# Altium footprint library All.PcbLib: 121 footprints (part 3 of 8)
Each footprint in its own frame and in the unit in brackets; x right, y up, seen from the top. Pads: shape width x height; smd on the part's side, far side on the other; paste and mask are expansions set on the pad; w line width, h text height; cw(c..) or ccw(c..) is an arc to the next point about the centre after c.
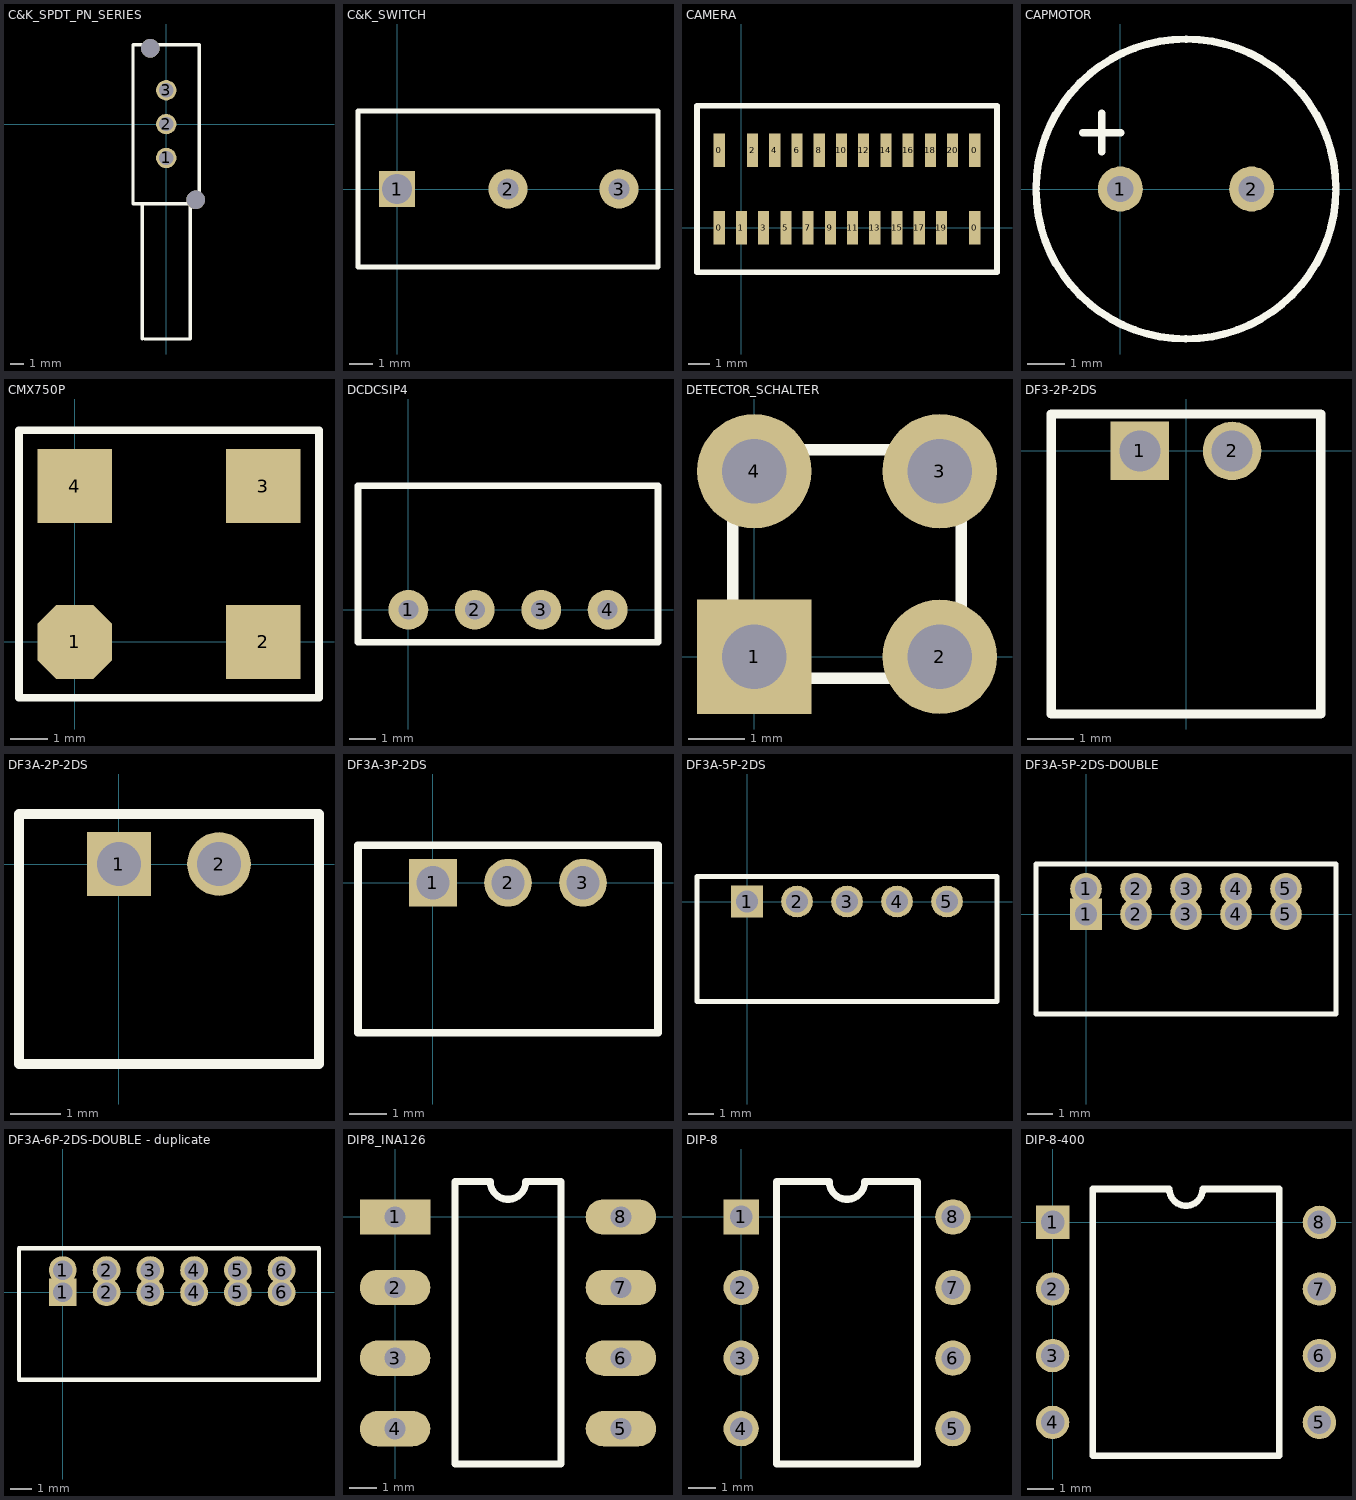
[diagram p2: the footprints below, top view; thin cyan lines are the x and y axes]

## C&K_SPDT_PN_SERIES [mil]
pads (5):
  round 60 hole 42: 1(0,-100) 2(0,0) 3(0,100)
  round 55 hole 55: ""(-47,224) ""(87,-224)
Top Overlay:
  lines w10: -70.87,-635 -70.87,-235 ; -62.99,-635 70.87,-635 70.87,-235 ; -98,-235 -98,235 98,235 98,-235 -98,-235

## C&K_SWITCH [mil] "Slide switch"
pads (3):
  rect 60x60 hole 50: 1(0,0)
  round 65 hole 35: 2(185,0) 3(370,0)
Top Overlay:
  lines w8: -65,-130 -65,130 435,130 435,-130 -65,-130

## CAMERA [mil]
pads (24):
  rect 20x60 smd: 0(-40,0) 0(-40,140) 0(420,0) 0(420,140) 1(0,0) 2(20,140) 3(40,0) 4(60,140) 5(80,0) 6(100,140) 7(120,0) 8(140,140) 9(160,0) 10(180,140) 11(200,0) 12(220,140) 13(240,0) 14(260,140) 15(280,0) 16(300,140) 17(320,0) 18(340,140) 19(360,0) 20(380,140)
Top Overlay:
  lines w10: -80,-80 460,-80 460,220 -80,220 -80,-80

## CAPMOTOR [mm]
pads (2):
  round 1.2 hole 0.7: 1(0,0) 2(3.5,0)
Top Overlay:
  circle w0.2: c1.75,0 r4
  lines w0.2: -1,1.5 0.016,1.5 ; -0.5,1 -0.5,2.016

## CMX750P [mm]
pads (4):
  oct 2x2 smd: 1(0,0)
  rect 2x2 smd: 2(5.08,0) 3(5.08,4.2) 4(0,4.2)
Top Overlay:
  lines w0.203: -1.5,-1.5 6.58,-1.5 6.58,5.7 -1.5,5.7 -1.5,-1.5

## DCDCSIP4 [mil]
pads (4):
  round 60 hole 30: 1(0,0) 2(100,0) 3(200,0) 4(300,0)
Top Overlay:
  lines w10: -75.98,-49.21 375.98,-49.21 375.98,187.01 -75.98,187.01 -75.98,-49.21

## DETECTOR_SCHALTER [mil] "Detector Schalter Conrad JDS-1105A"
pads (4):
  rect 80x80 hole 45: 1(0,0)
  round 80 hole 45: 2(129.92,0) 3(129.92,129.92) 4(0,129.92)
Top Overlay:
  lines w8: -15,30 -15,100 ; 30,-15 100,-15 ; 30,145 100,145 ; 145,30 145,100

## DF3-2P-2DS [mil]
pads (2):
  rect 50x50 hole 35: 1(-39.37,0)
  round 50 hole 35: 2(39.37,0)
Top Overlay:
  lines w8: -115,-224.41 -115,31.5 115,31.5 115,-224.41 -115,-224.41

## DF3A-2P-2DS [mil]
pads (2):
  rect 50x50 hole 35: 1(0,0)
  round 50 hole 35: 2(78.74,0)
Top Overlay:
  lines w8: -78.74,-157.48 -78.74,39.37 157.48,39.37 157.48,-157.48 -78.74,-157.48

## DF3A-3P-2DS [mil]
pads (3):
  rect 50x50 hole 35: 1(0,0)
  round 50 hole 35: 2(78.74,0) 3(157.48,0)
Top Overlay:
  lines w8: -78.74,-157.48 236.22,-157.48 236.22,39.37 -78.74,39.37 -78.74,-157.48

## DF3A-5P-2DS [mil]
pads (5):
  rect 50x50 hole 35: 1(0,0)
  round 50 hole 35: 2(78.74,0) 3(157.48,0) 4(236.22,0) 5(314.96,0)
Top Overlay:
  lines w8: -78.74,-157.48 -78.74,39.37 393.7,39.37 393.7,-157.48 -78.74,-157.48

## DF3A-5P-2DS-DOUBLE [mil]
pads (10):
  rect 50x50 hole 35: 1(0,0)
  round 50 hole 35: 1(0,40) 2(78.74,0) 2(78.74,40) 3(157.48,0) 3(157.48,40) 4(236.22,0) 4(236.22,40) 5(314.96,0) 5(314.96,40)
Top Overlay:
  lines w8: -78.74,-157.48 393.7,-157.48 393.7,79.37 -78.74,79.37 -78.74,-157.48

## DF3A-6P-2DS-DOUBLE - duplicate [mil]
pads (12):
  rect 50x50 hole 35: 1(0,0)
  round 50 hole 35: 1(0,40) 2(78.74,0) 2(78.74,40) 3(157.48,0) 3(157.48,40) 4(236.22,0) 4(236.22,40) 5(314.96,0) 5(314.96,40) 6(393.7,0) 6(393.7,40)
Top Overlay:
  lines w8: -78.74,-157.48 -78.74,79.37 461,79.37 461,-157.48 -78.74,-157.48

## DIP8_INA126 [mil]
pads (8):
  rect 100x50 hole 30: 1(0,0)
  oval 100x50 hole 30: 2(0,-100) 3(0,-200) 4(0,-300) 5(320,-300) 6(320,-200) 7(320,-100) 8(320,0)
Top Overlay:
  lines w10: 85,-350 85,50 135,50 ccw(c160,50) 185,50 235,50 235,-350 85,-350

## DIP-8 [mil]
pads (8):
  rect 50x50 hole 32: 1(0,0)
  round 50 hole 32: 2(0,-100) 3(0,-200) 4(0,-300) 5(300,-300) 6(300,-200) 7(300,-100) 8(300,0)
Top Overlay:
  lines w10: 50,-350 250,-350 250,50 175,50 cw(c150,50) 125,50 50,50 50,-350

## DIP-8-400 [mil]
pads (8):
  rect 50x50 hole 35: 1(0,0)
  round 50 hole 35: 2(0,-100) 3(0,-200) 4(0,-300) 5(400,-300) 6(400,-200) 7(400,-100) 8(400,0)
Top Overlay:
  lines w10: 60,-350 340,-350 340,50 225,50 cw(c200,50) 175,50 60,50 60,-350